# Altium schematic symbol library xEV_Flyback20W.SchLib: 77 symbols (part 2 of 2)
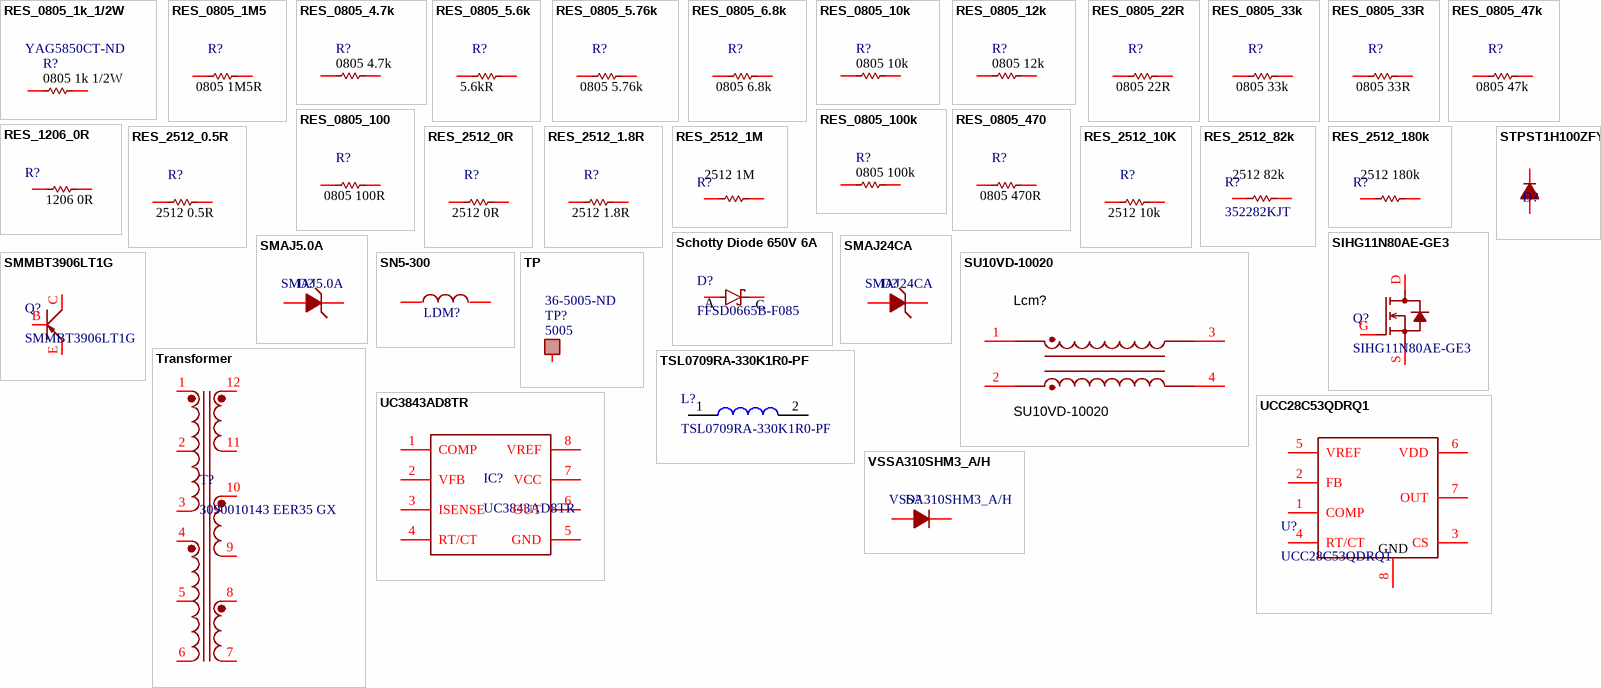
[diagram p2: symbols RES_0805_1k_1/2W to VSSA310SHM3_A/H]

## RES_0805_47k
designator R?, comment value 0805 47k  (hidden comment: RC0805JR-1347KL)
47 kOhms ±5% 0.125W, 1/8W Chip Resistor 0805 (2012 Metric) Moisture Resistant Thick Film; Manufacturer 1: Yageo; Manufacturer Part Number 1: AC0805FR-0733RL; Description 1: SMD Chip Resistor, 33 Ohm, ± 1%, 125 mW, 0805 [2012 Metric], Thick Film, General Purpose; Category 1: Chip SMD Resistors; RoHS 1: Yes; Stock 1: 24620; Pricing 1: 1=0,1, 10=0,029, 50=0,0188, 100=0,0158, 500=0,01096, 1000=0,00948 (USD); ComponentLink1URL: http://www.mouser.com/ds/2/447/yageodocoutput-1111992.pdf?src-supplier=Mouser; ComponentLink1Description: http://www.mouser.com/ds/2/447/yageodocoutput-1111992.pdf?src-supplier=Mouser; ComponentLink2URL: http://www.yageo.com/NewPortal/yageodocoutput?fileName=/pdf/R-Chip/PYu-AC_51_RoHS_L_6.pdf&src-supplier=Digi-Key; ComponentLink2Description: http://www.yageo.com/NewPortal/yageodocoutput?fileName=/pdf/R-Chip/PYu-AC_51_RoHS_L_6.pdf&src-supplier=Digi-Key; ComponentLink3URL: https://www.yageo.com/upload/media/product/productsearch/datasheet/rchip/PYu-AC_51_RoHS_L_7.pdf?src-supplier=Digi-Key; ComponentLink3Description: https://www.yageo.com/upload/media/product/productsearch/datasheet/rchip/PYu-AC_51_RoHS_L_7.pdf?src-supplier=Digi-Key; ComponentLink4URL: http://www.yageo.com/NewPortal/yageodocoutput?fileName=/pdf/R-Chip/PYu-AC_51_RoHS_L_5.pdf&src-supplier=Digi-Key; ComponentLink4Description: http://www.yageo.com/NewPortal/yageodocoutput?fileName=/pdf/R-Chip/PYu-AC_51_RoHS_L_5.pdf&src-supplier=Digi-Key; ComponentLink5URL: https://datasheet.octopart.com/AC0805FR-0733RL-Yageo-datasheet-151884373.pdf?src-supplier=Future+Electronics; ComponentLink5Description: https://datasheet.octopart.com/AC0805FR-0733RL-Yageo-datasheet-151884373.pdf?src-supplier=Future+Electronics; Supplier 1: Digikey; Supplier Part Number 1: 13-RC0805JR-1347KLCT-ND
footprint RES 0805 (Resistor 2.0 x 1.2 mm (LxW typ))
pins: 1, 2

## RES_0805_100
designator R?, comment value 0805 100R  (hidden comment: RC0805FR-07100RL)
100 Ohms ±1% 0.125W, 1/8W Chip Resistor 0805 (2012 Metric) Moisture Resistant Thick Film; Supplier 1: Digi-Key; Supplier Part Number 1: 311-100CRCT-ND
footprint RES 0805 (Resistor 2.0 x 1.2 mm (LxW typ))
pins: 1, 2

## RES_0805_100k
designator R?, comment value 0805 100k  (hidden comment: RK73B2ATTD104J)
100 kOhms ±1% 0.250W, 1/4W Chip Resistor 0805; Supplier 1: Digikey; Supplier Part Number 1: 2019-RK73B2ATTD104JCT-ND
footprint Res 0805 (Resistor 2.0 x 1.2 mm (LxW typ))
pins: 1, 2

## RES_0805_470
designator R?, comment value 0805 470R  (hidden comment: RC0805FR-07470RP)
470 Ohms ±1% 0.125W, 1/8W Chip Resistor 0805 (2012 Metric) Moisture Resistant Thick Film; Supplier 1: Digikey; Supplier Part Number 1: 13-RC0805FR-07470RPCT-ND
footprint RES 0805 (Resistor 2.0 x 1.2 mm (LxW typ))
pins: 1, 2

## RES_1206_0R
designator R?  value 1206 0R  (hidden comment: *)
0 Ohms ±5% 1W, Moisture Resistant Thick Film; Manufacturer_Name: Bourns; Manufacturer_Part_Number: CR1206-F/-2R00ELF; Height: 0.75mm; Mouser Part Number: 652-CR1206-F/2R00ELF; Mouser Price/Stock: https://www.mouser.co.uk/ProductDetail/Bourns/CR1206-F-2R00ELF?qs=W%2FMpXkg%252BdQ47Z%2FeZv1nDSg%3D%3D; Supplier 1: Digikey; Supplier Part Number 1: 541-4322-1-ND
footprint RES 1206
pins: 1, 2

## RES_2512_0.5R
designator R?  value 2512 0.5R
0.5R 2512 3W 1%; Supplier 1: Digi-Key; Supplier Part Number 1: 311-100CRCT-ND
footprint RES 2512
pins: 1, 2

## RES_2512_0R
designator R?, comment value 2512 0R  (hidden comment: CRCW25120000Z0EG)
0 Ohms Jumper Chip Resistor 2512 (6432 Metric) Automotive AEC-Q200 Thick Film; Supplier 1: Digikey; Supplier Part Number 1: 541-0.0XCT-ND
footprint RES 2512
pins: 1, 2

## RES_2512_1.8R
designator R?, comment value 2512 1.8R  (hidden comment: CRCW25121R80FKEG)
RES SMD 1.8 OHM 1% 1W 2512; Supplier 1: Digikey; Supplier Part Number 1: 541-1.80AFCT-ND
footprint RES 2512
pins: 1, 2

## RES_2512_1M
designator R?, comment value 2512 1M  (hidden comment: 35221M0JT)
1M OHM 5% 3W 2512; Manufacturer_Name: TE Connectivity; Manufacturer_Part_Number: TLR3A30DR0015FTDG; Datasheet Link: http://www.te.com/commerce/DocumentDelivery/DDEController?Action=srchrtrv&DocNm=1879378&DocType=Customer+Drawing&DocLang=English; Height: 0.8mm; Mouser Part Number: 279-TLR3A30DR0015FTD; Mouser Price/Stock: https://www.mouser.co.uk/ProductDetail/TE-Connectivity-CGS/TLR3A30DR0015FTDG?qs=Td4ahdVznEA1BjtU1QJrUg%3D%3D; Arrow Part Number: TLR3A30DR0015FTDG; Arrow Price/Stock: https://www.arrow.com/en/products/tlr3a30dr0015ftdg/te-connectivity; Supplier 1: Digikey; Supplier Part Number 1: A121173CT-ND
footprint RES 2512
pins: 1, 2

## RES_2512_10K
designator R?, comment value 2512 10k  (hidden comment: VJ1206A391JXEAT)
10k 2512 1W 5%; Supplier 1: Digikey; Supplier Part Number 1: 541-10KXDKR-ND
footprint RES 2512
pins: 1, 2

## RES_2512_82k
designator R?, comment 352282KJT  value 2512 82k
82 kOHM 5% 3W 2512; Manufacturer_Name: TE Connectivity; Manufacturer_Part_Number: TLR3A30DR0015FTDG; Datasheet Link: http://www.te.com/commerce/DocumentDelivery/DDEController?Action=srchrtrv&DocNm=1879378&DocType=Customer+Drawing&DocLang=English; Height: 0.8mm; Mouser Part Number: 279-TLR3A30DR0015FTD; Mouser Price/Stock: https://www.mouser.co.uk/ProductDetail/TE-Connectivity-CGS/TLR3A30DR0015FTDG?qs=Td4ahdVznEA1BjtU1QJrUg%3D%3D; Arrow Part Number: TLR3A30DR0015FTDG; Arrow Price/Stock: https://www.arrow.com/en/products/tlr3a30dr0015ftdg/te-connectivity; Supplier 1: Digikey; Supplier Part Number 1: A121310CT-ND
footprint RES 2512
pins: 1, 2

## RES_2512_180k
designator R?, comment value 2512 180k  (hidden comment: CRGP2512F180K)
RES 180K OHM 1% 2W 2512; Manufacturer_Name: TE Connectivity; Manufacturer_Part_Number: TLR3A30DR0015FTDG; Datasheet Link: http://www.te.com/commerce/DocumentDelivery/DDEController?Action=srchrtrv&DocNm=1879378&DocType=Customer+Drawing&DocLang=English; Height: 0.8mm; Mouser Part Number: 279-TLR3A30DR0015FTD; Mouser Price/Stock: https://www.mouser.co.uk/ProductDetail/TE-Connectivity-CGS/TLR3A30DR0015FTDG?qs=Td4ahdVznEA1BjtU1QJrUg%3D%3D; Arrow Part Number: TLR3A30DR0015FTDG; Arrow Price/Stock: https://www.arrow.com/en/products/tlr3a30dr0015ftdg/te-connectivity; Supplier 1: Digikey; Supplier Part Number 1: A130748CT-ND
footprint RES 2512
pins: 1, 2

## Schotty Diode 650V 6A
designator D?, comment FFSD0665B-F085
Schottky Diodes & Rectifiers 650V 6A SIC SBD; Manufacturer_Name: onsemi; Manufacturer_Part_Number: FFSD08120A; Datasheet Link: http://www.onsemi.com/pub/Collateral/FFSD08120A-D.PDF; Mouser Part Number: 863-FFSD08120A; Mouser Price/Stock: https://www.mouser.co.uk/ProductDetail/onsemi/FFSD08120A?qs=f9yNj16SXrKqhVkeFnS%2F%252BA%3D%3D; Arrow Part Number: FFSD08120A; Arrow Price/Stock: https://www.arrow.com/en/products/ffsd08120a/on-semiconductor; Supplier 1: Digikey; Supplier Part Number 1: 5556-FFSD0665B-F085CT-ND
footprint Schottky Diode 650V
pins: 1 A, 2 C

## SIHG11N80AE-GE3
designator Q?
MOSFET N-CH 800V 8A TO247AC; Manufacturer_Name: onsemi; Manufacturer_Part_Number: NVHL160N120SC1; Datasheet Link: https://www.onsemi.com/pdf/datasheet/nvhl160n120sc1-d.pdf; Height: 4.82mm; Mouser Part Number: 863-NVHL160N120SC1; Mouser Price/Stock: https://www.mouser.co.uk/ProductDetail/ON-Semiconductor/NVHL160N120SC1?qs=GedFDFLaBXGyNe%2F0JxjRIw%3D%3D; Arrow Part Number: NVHL160N120SC1; Arrow Price/Stock: https://www.arrow.com/en/products/nvhl160n120sc1/on-semiconductor; Supplier 1: Digikey; Supplier Part Number 1: 742-SIHG11N80AE-GE3-ND
footprint N-CH MOSFET 1k2V
pins: D 3, G 1, S 2

## SMAJ5.0A
designator D?
9.2V Clamp 43.5A Ipp Tvs Diode Surface Mount DO-214AC (SMA); Manufacturer 1: Littelfuse; Description 1: SMAJ Series 9.2 V 400 W Surface Mount Uni-Directional TVS Diode - DO-214AC; Polarity: Unidirectional; Power Dissipation: 400W; Number of Elements: 1; Operating Supply Voltage: 5V; Reverse Breakdown Voltage: 6.4V; Power Line Protection: No; Test Current: 10mA; Max Breakdown Voltage: 7V; Max Reverse Leakage Current: 800uA; Max Power Dissipation: 3.3W; Diode Type: ZENER; Supplier 1: Digikey; Manufacturer Part Number 1: SMAJ5.0A; RoHS 1: Yes; Category 1: TVS Diodes; Stock 1: 104022; Pricing 1: 1=0,39, 10=0,277, 100=0,1399, 500=0,124, 1000=0,09649, 2000=0,08636, 5000=0,08443, 10000=0,07478, 25000=0,07382, 50000=0,06272, 125000=0,06031 (USD); Mount: Surface Mount; Case/Package: DO-214AC; Number of Pins: 2; Min Operating Temperature: -65°C; Max Operating Temperature: 150°C; Clamping Voltage: 9.2V; Direction: Unidirectional; Package Quantity: 5000; Max Surge Current: 43.5A; Packaging: Tape and Reel; Number of Unidirectional Channels: 1; Reverse Standoff Voltage: 5V; Min Breakdown Voltage: 6.4V; Peak Pulse Power: 400W; Breakdown Voltage: 6.4V; Number of Channels: 1; Termination: SMD/SMT; Peak Pulse Current: 43.5A; Leakage Current: 800uA; Series: SMAJ; Clamping Voltage-Max: 9.2V; Length: 4.5mm; Width: 2.79mm; Height: 2.087mm; Reach SVHC Compliant: No; RoHS Compliant: Yes; ComponentLink1URL: https://datasheet.ciiva.com/25624/0900766b810f4edb-25624839.pdf?src-supplier=Rs; ComponentLink1Description: https://datasheet.ciiva.com/25624/0900766b810f4edb-25624839.pdf?src-supplier=Rs; ComponentLink2URL: https://datasheet.ciiva.com/8062/littelfuse-tvs-diode-smaj-8062271.pdf?src-supplier=Element14; ComponentLink2Description: https://datasheet.ciiva.com/8062/littelfuse-tvs-diode-smaj-8062271.pdf?src-supplier=Element14; ComponentLink3URL: https://datasheet.ciiva.com/28473/607617-28473433.pdf?src-supplier=Element14; ComponentLink3Description: https://datasheet.ciiva.com/28473/607617-28473433.pdf?src-supplier=Element14; ComponentLink4URL: https://datasheet.ciiva.com/4507/littelfuse-tvs-diode-smaj-23503-4507964.pdf?src-supplier=Mouser; ComponentLink4Description: https://datasheet.ciiva.com/4507/littelfuse-tvs-diode-smaj-23503-4507964.pdf?src-supplier=Mouser; ComponentLink5URL: https://datasheet.ciiva.com/16380/littelfuse-tvs-diode-smaj-16380982.pdf?src-supplier=Future+Electronics; ComponentLink5Description: https://datasheet.ciiva.com/16380/littelfuse-tvs-diode-smaj-16380982.pdf?src-supplier=Future+Electronics; Supplier Part Number 1: SMAJ5.0ALFCT-ND
footprint SMA (DO-214AC)
pins: A, K

## SMAJ24CA
designator D?
38.9V Clamp 10.3A Ipp Tvs Diode Surface Mount DO-214AC (SMA); Manufacturer 1: Littelfuse; Description 1: SMAJ Series 38.9 V 0.4 kW Surface Mount Bi-Directional TVS Diode - DO-214AC; Peak Pulse Power: 400W; Reverse Standoff Voltage: 24V; Min Breakdown Voltage: 26.7V; Direction: Bidirectional; Test Current: 1mA; Max Reverse Leakage Current: 1uA; Number of Bidirectional Channels: 1; Power Line Protection: No; Diode Type: ZENER; Max Power Dissipation: 3.3W; Max Breakdown Voltage: 29.5V; Supplier 1: Digikey; Manufacturer Part Number 1: SMAJ24CA; RoHS 1: Yes; Category 1: TVS Diodes; Stock 1: 100645; Pricing 1: 1=0,4, 10=0,287, 100=0,1449, 500=0,12844, 1000=0,09996, 2000=0,08947 (USD); Mount: Surface Mount; Case/Package: DO-214AC; Number of Pins: 2; Min Operating Temperature: -65°C; Max Operating Temperature: 150°C; Packaging: Tape and Reel; Peak Pulse Current: 10.3A; Clamping Voltage: 38.9V; Polarity: Bidirectional; Reverse Breakdown Voltage: 26.7V; Number of Elements: 1; Leakage Current: 1uA; Series: SMAJ; Voltage Rating (DC): 24V; Power Dissipation: 400W; Clamping Voltage-Max: 38.9V; Reverse Voltage: 24V; Length: 5.28mm; Width: 2.79mm; Height: 2.29mm; RoHS Compliant: Yes; Lead Free: Lead Free; Reach SVHC Compliant: No; ComponentLink1URL: https://datasheet.ciiva.com/28473/607617-28473406.pdf?src-supplier=Element14; ComponentLink1Description: https://datasheet.ciiva.com/28473/607617-28473406.pdf?src-supplier=Element14; ComponentLink2URL: https://datasheet.ciiva.com/331/littelfuse-tvs-diode-smaj-datasheet-pdf-331049.pdf?src-supplier=Digikey; ComponentLink2Description: https://datasheet.ciiva.com/331/littelfuse-tvs-diode-smaj-datasheet-pdf-331049.pdf?src-supplier=Digikey; ComponentLink3URL: https://datasheet.ciiva.com/331/littelfuse-tvs-diode-smaj-datasheet-pdf-331050.pdf?src-supplier=Digikey; ComponentLink3Description: https://datasheet.ciiva.com/331/littelfuse-tvs-diode-smaj-datasheet-pdf-331050.pdf?src-supplier=Digikey; ComponentLink4URL: https://datasheet.ciiva.com/331/littelfuse-tvs-diode-smaj-datasheet-pdf-331048.pdf?src-supplier=Digikey; ComponentLink4Description: https://datasheet.ciiva.com/331/littelfuse-tvs-diode-smaj-datasheet-pdf-331048.pdf?src-supplier=Digikey; Supplier Part Number 1: SMAJ24CALFCT-ND
footprint SMA (DO-214AC)
pins: A, K

## SMMBT3906LT1G
designator Q?
Bipolar (BJT) Transistor PNP 40 V 200 mA 250MHz 300 mW Surface Mount SOT-23-3 (TO-236); Manufacturer_Name: Nexperia; Manufacturer_Part_Number: BCW29,215; Datasheet Link: https://assets.nexperia.com/documents/data-sheet/BCW29_BCW30.pdf; Height: 1.1mm; Mouser Part Number: 771-BCW29215; Mouser Price/Stock: https://www.mouser.co.uk/ProductDetail/Nexperia/BCW29215?qs=me8TqzrmIYVwiZ%2F5%2FhIOpA%3D%3D; Arrow Part Number: BCW29,215; Arrow Price/Stock: https://www.arrow.com/en/products/bcw29215/nexperia?region=nac; Supplier 1: Digikey; Supplier Part Number 1: SMMBT3906LT1GOSCT-ND
footprint BJT-SOT23
pins: B 1, C 3, E 2

## SN5-300
designator LDM?  (value not drawn)
Filters 25uH 2A DCR=42mOhms; ComponentLink1URL: https://www.allegromicro.com/~/media/Files/Datasheets/ACS72981-Datasheet.ashx?src-supplier=Digi-Key; ComponentLink1Description: https://www.allegromicro.com/~/media/Files/Datasheets/ACS72981-Datasheet.ashx?src-supplier=Digi-Key; Supplier 1: Digikey; Supplier Part Number 1: 399-20548-ND
footprint SN5300
pins: 1, 2

## STPST1H100ZFY
designator D?  (value not drawn)
Diode 100 V 1A Surface Mount SOD-123F; Manufacturer 1: STMicroelectronics; Description 1: Automotive 100 V, 1 A Power Scho; Category 1: Uncategorized; ComponentLink1URL: https://datasheet.ciiva.com/6574/littelfuse-tvs-diode-smf-datasheet-pdf-6574037.pdf?src-supplier=Digi-Key; ComponentLink1Description: https://datasheet.ciiva.com/6574/littelfuse-tvs-diode-smf-datasheet-pdf-6574037.pdf?src-supplier=Digi-Key; Supplier 1: Digikey; Manufacturer Part Number 1: STPST1H100ZFY; RoHS 1: No; Stock 1: 4053; Pricing 1: 1=0,36, 10=0,276, 100=0,1655, 500=0,15326, 1000=0,10422 (USD); Supplier Part Number 1: 497-STPST1H100ZFYCT-ND
footprint SOD-123FL
pins: A, K

## SU10VD-10020
designator Lcm?
Common Mode Chokes / Filters 250V 0.02mH 1A DCR=0.12Ohms; Manufacturer 1: KEMET; Manufacturer Part Number 1: SCF25XV-350-2R4A003JV; Description 1: Common Mode Choke, 220Uh, 35A, Radial; Dc Current Rating: 35A; Product Range: scf Series; Inductance: 220Μh; ComponentLink1Description: Datasheet URL; ComponentLink1URL: https://www.mouser.com/ds/2/599/6123-X240-240787.pdf; Supplier 1: Digi-Key; RoHS 1: No; Stock 1: 63; Pricing 1: 1=11,56, 10=10,238, 35=9,908, 70=9,57786, 105=9,24752, 245=8,78518 (USD); Supplier Part Number 1: 399-SCF25XV-350-2R4A003JV-ND
footprint SU10VD10020
pins: 1, 2, 3, 4

## TP
designator TP?, comment 5005  Supplier Part Number 1: 36-5005-ND
Red PC Test Point, Compact Phosphor Bronze Silver Plating Through Hole Mounting Type; Manufacturer 1: Keystone Electronics; Value: TP; Description 1: Conn Type N Adapter PL/RCP 0Hz to 18GHz 50Ohm ST Gold; Category 1: Connectors; Supplier 1: Digi-Key; Manufacturer Part Number 1: 5005; RoHS 1: Yes; Stock 1: 442422; Pricing 1: 1=0,38, 25=0,308, 100=0,3015, 250=0,28304, 500=0,2523, 1000=0,17746, 2500=0,16225, 5000=0,15211 (USD); ComponentLink1URL: https://datasheet.ciiva.com/11744/0900766b8009b7c7-11744948.pdf?src-supplier=Rs; ComponentLink1Description: https://datasheet.ciiva.com/11744/0900766b8009b7c7-11744948.pdf?src-supplier=Rs; ComponentLink2URL: https://datasheet.ciiva.com/2917/m60-2p60-2917633.pdf?src-supplier=Digi-Key; ComponentLink2Description: https://datasheet.ciiva.com/2917/m60-2p60-2917633.pdf?src-supplier=Digi-Key; ComponentLink3URL: https://datasheet.ciiva.com/16508/m60-2p60-16508073.pdf?src-supplier=Future+Electronics; ComponentLink3Description: https://datasheet.ciiva.com/16508/m60-2p60-16508073.pdf?src-supplier=Future+Electronics; ComponentLink4URL: https://datasheet.ciiva.com/1454/1703983-1454828.pdf?src-supplier=Element14; ComponentLink4Description: https://datasheet.ciiva.com/1454/1703983-1454828.pdf?src-supplier=Element14; ComponentLink5URL: https://datasheet.ciiva.com/16883/70182825-16883781.pdf?src-supplier=Allied+Electronics; ComponentLink5Description: https://datasheet.ciiva.com/16883/70182825-16883781.pdf?src-supplier=Allied+Electronics
footprint TP (Test Point)
pins: 1 TP

## Transformer
designator T?, comment 3090010143 EER35 GX
footprint Transformer 6x2
pins: 1, 2, 3, 4, 5, 6, 7, 8, 9, 10, 11, 12

## TSL0709RA-330K1R0-PF
designator L?
Inductor; Manufacturer_Name: TDK; Datasheet Link: https://product.tdk.com/system/files/dam/doc/product/inductor/inductor/lead/wdcatalog/leaded_inductor_tsl0709-pf_en.pdf; Manufacturer_Part_Number: TSL0709RA-330K1R0-PF
footprint TSL0709
pins: 1, 2

## UC3843AD8TR
designator IC?
UC3843 Switching IC 8.4V 500kHz; Supplier 1: Digikey; Supplier Part Number 1: 296-27152-1-ND
footprint UC3843_SOIC8 (SOIC8)
pins: 1 COMP, 2 VFB, 3 ISENSE, 4 RT/CT, 5 GND, 6 OUT, 7 VCC, 8 VREF

## UCC28C53QDRQ1
designator U?
Buck, Boost, Flyback, Forward Converter, SEPIC Regulator Positive Output Step-Up, Step-Down, Step-Up/Step-Down DC-DC Controller IC 8-SOIC; Manufacturer 1: Texas Instruments; Description 1: Automotive, 30-V, low-power current-mode PWM controller, 8.4-V/7.6-V UVLO, 100% duty cycle 8-SOIC -40 to 150; Category 1: Voltage Regulators - Switching; Supplier 1: Digikey; Manufacturer Part Number 1: UCC28C53QDRQ1; RoHS 1: No; Stock 1: 3851; Pricing 1: 1=1,99, 10=1,788, 25=1,6868, 100=1,4371, 250=1,34936, 500=1,18068, 1000=0,97829, 2500=0,91082, 5000=0,87708 (USD); Supplier Part Number 1: 296-UCC28C53QDRQ1CT-ND
footprint SOIC8
pins: 1 COMP, 2 FB, 3 CS, 4 RT/CT, 5 VREF, 6 VDD, 7 OUT, 8 GND

## VSSA310SHM3_A/H
designator D?
Diode 100 V 3A Surface Mount DO-214AC (SMA); Manufacturer 1: Vishay; Description 1: Diode Schottky 100V 3A Automotive AEC-Q101 2-Pin SMA T/R; Category 1: Rectifier Diodes; Supplier 1: Digikey; Manufacturer Part Number 1: VSSA310SHM3_A/H; RoHS 1: No; Stock 1: 9443; Pricing 1: 1=0,35, 10=0,273, 100=0,1636, 500=0,1515, 1800=0,10302, 3600=0,09484, 5400=0,0909, 9000=0,08181, 45000=0,0806, 90000=0,07575 (USD); RoHS Compliant: Yes; Supplier Part Number 1: 112-VSSA310SHM3_A/HCT-ND
footprint SMA (DO-214AC)
pins: A, K